# Altium footprint library resistor.PCBLIB: 427 footprints (part 8 of 27)
Each footprint in its own frame and in the unit in brackets; x right, y up, seen from the top. Pads: shape width x height; smd on the part's side, far side on the other; paste and mask are expansions set on the pad; w line width, h text height; cw(c..) or ccw(c..) is an arc to the next point about the centre after c.
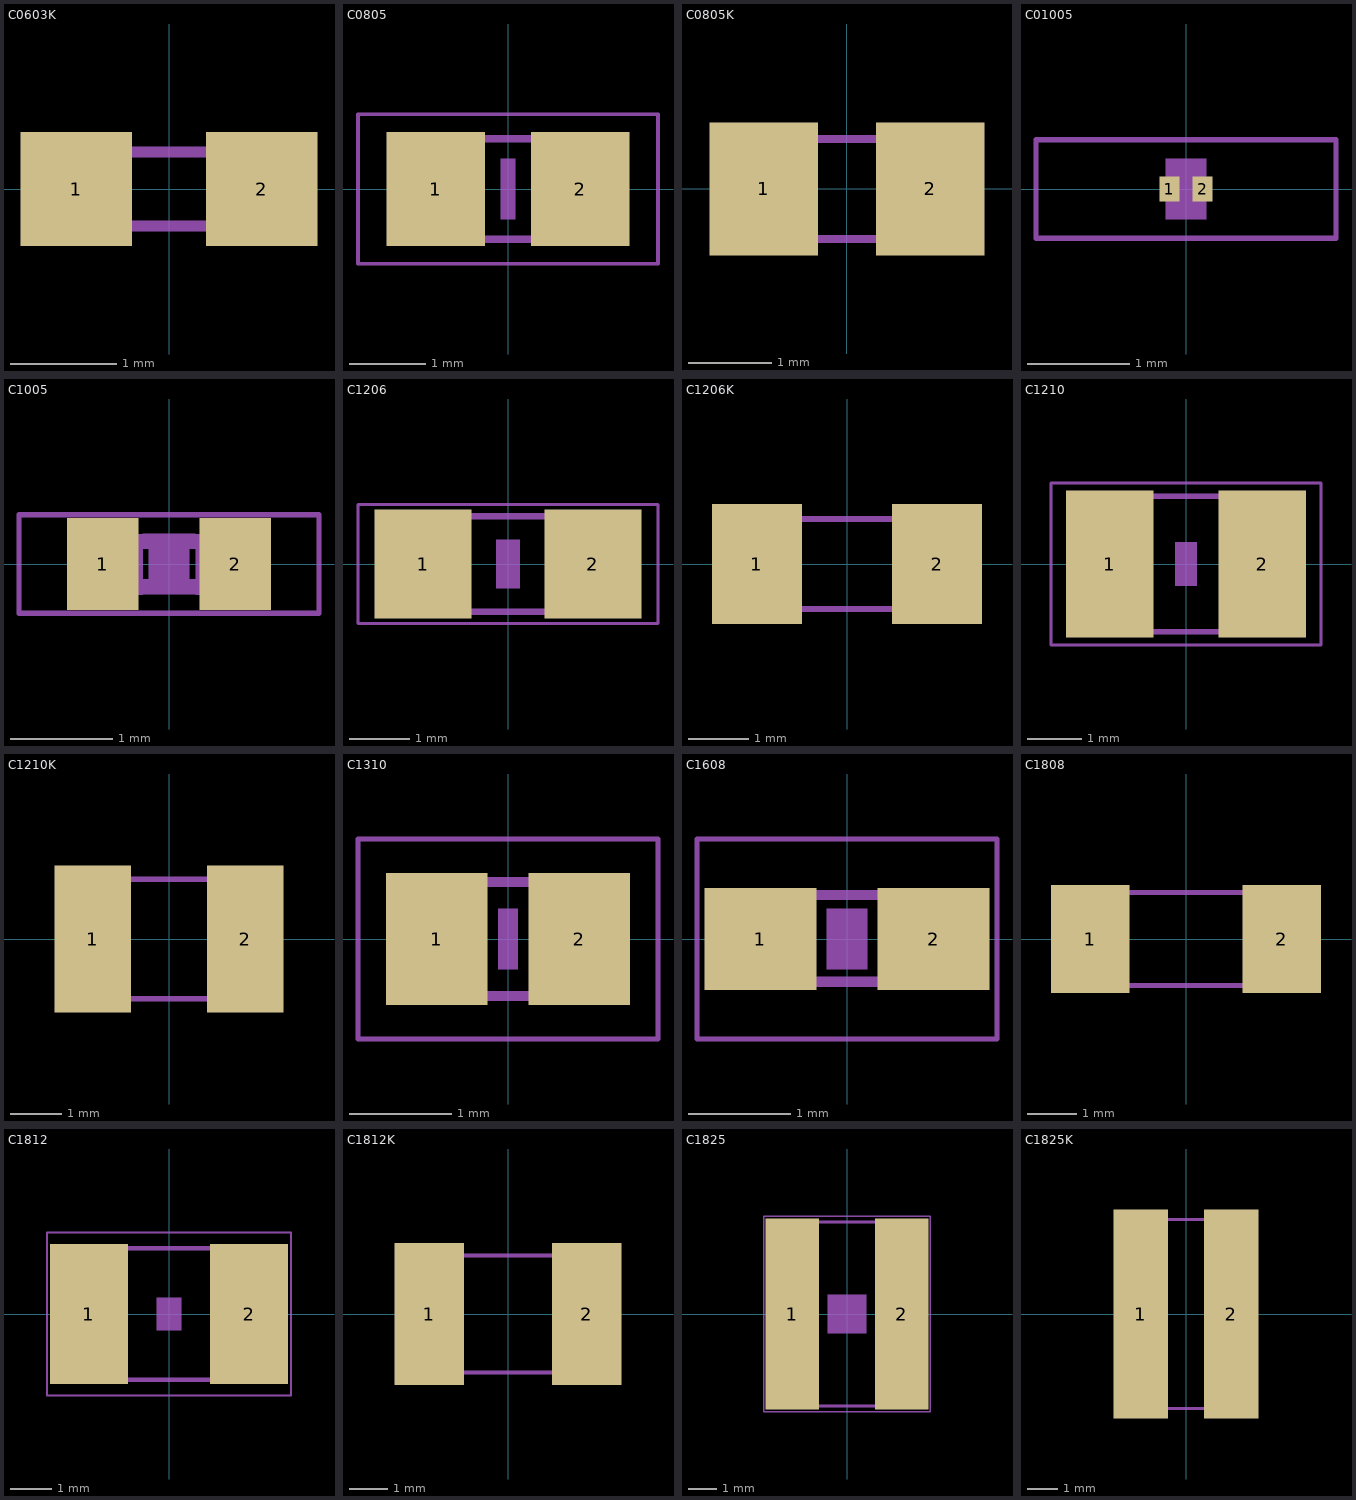
[diagram p7: the footprints below, top view; thin cyan lines are the x and y axes]

## C0603K [mm]
pads (2):
  rect 1.05x1.08 smd: 1(-0.875,0) 2(0.875,0)
Mechanical 16:
  rectangle: -0.8,-0.4 -0.45,0.4
  rectangle: 0.45,-0.4 0.8,0.4
  lines w0.102: -0.725,-0.35 0.725,-0.35 ; -0.725,0.35 0.725,0.35

## C0805 [mil]
pads (2):
  rect 51.18x59.06 smd: 1(-37.4,0) 2(37.4,0)
Mechanical 6:
  rectangle: -3.94,-15.75 3.94,15.75
Mechanical 16:
  rectangle: -43,-28.5 -13.47,28.59
  rectangle: 14,-28.5 43.53,28.59
  lines w4: -15,25.98 15,25.98 ; -14.02,-25.98 15,-25.98
Mechanical 27:
  lines w2: -77.68,-38.7 77.68,-38.7 77.68,38.7 -77.68,38.7 -77.68,-38.7

## C0805K [mm]
pads (2):
  rect 1.3x1.6 smd: 1(-1,0) 2(1,0)
Mechanical 16:
  rectangle: -1,-0.65 -0.5,0.65
  rectangle: 0.5,-0.65 1,0.65
  lines w0.102: -0.925,-0.6 0.925,-0.6 ; -0.925,0.6 0.925,0.6

## C01005 [mil]
pads (2):
  rect 7.87x9.84 smd: 1(-6.4,0) 2(6.4,0)
Mechanical 6:
  rectangle: -7.87,-11.81 7.87,11.81
Mechanical 16:
  rectangle: -7.87,-3.94 -2.95,3.94
  rectangle: 2.95,-3.94 7.87,3.94
  rectangle: -5.91,1.97 5.91,3.94
  rectangle: -5.91,-3.94 5.91,-1.97
Mechanical 27:
  lines w2: -57.99,-19.02 57.99,-19.02 57.99,19.02 -57.99,19.02 -57.99,-19.02

## C1005 [mm]
pads (2):
  rect 0.7x0.9 smd: 1(-0.65,0) 2(0.65,0)
Mechanical 6:
  rectangle: -0.2,-0.3 0.2,0.3
Mechanical 16:
  rectangle: -0.554,-0.305 -0.254,0.295
  rectangle: 0.259,-0.305 0.559,0.295
  lines w0.152: -0.245,-0.224 0.245,-0.224 ; -0.245,0.224 0.245,0.224
Mechanical 27:
  lines w0.051: -1.473,-0.483 1.473,-0.483 1.473,0.483 -1.473,0.483 -1.473,-0.483

## C1206 [mil]
pads (2):
  rect 62.99x70.87 smd: 1(-55.12,0) 2(55.12,0)
Mechanical 6:
  rectangle: -7.87,-15.75 7.87,15.75
Mechanical 16:
  rectangle: -67,-33.5 -37.47,33.43
  rectangle: 37.47,-33.43 67,33.5
  lines w4: -37.99,-30.98 37.99,-30.98 ; -37.99,30.98 37.99,30.98
Mechanical 27:
  lines w2: -97.36,-38.7 97.36,-38.7 97.36,38.7 -97.36,38.7 -97.36,-38.7

## C1206K [mm]
pads (2):
  rect 1.5x2 smd: 1(-1.5,0) 2(1.5,0)
Mechanical 16:
  rectangle: -1.6,-0.8 -1.1,0.8
  rectangle: 1.1,-0.8 1.6,0.8
  lines w0.102: -1.525,-0.75 1.525,-0.75 ; -1.525,0.75 1.525,0.75

## C1210 [mil]
pads (2):
  rect 62.99x106.3 smd: 1(-55.12,0) 2(55.12,0)
Mechanical 6:
  rectangle: -7.87,-15.75 7.87,15.75
Mechanical 16:
  rectangle: -67,-51 -37.47,51.36
  rectangle: 37.47,-51.36 67,51
  lines w4: -38,-49 38,-49 ; -38,49 38,49
Mechanical 27:
  lines w2: -97.36,-58.39 97.36,-58.39 97.36,58.39 -97.36,58.39 -97.36,-58.39

## C1210K [mil]
pads (2):
  rect 59.06x114.17 smd: 1(-59.06,0) 2(59.06,0)
Mechanical 16:
  rectangle: -62.99,-49.21 -43.31,49.21
  rectangle: 43.31,-49.21 62.99,49.21
  lines w4: -60.04,-46.26 60.04,-46.26 ; -60.04,46.26 60.04,46.26

## C1310 [mm]
pads (2):
  rect 1x1.3 smd: 1(-0.7,0) 2(0.7,0)
Mechanical 6:
  rectangle: -0.1,-0.3 0.1,0.3
Mechanical 16:
  rectangle: -0.66,-0.622 -0.28,0.628
  rectangle: 0.279,-0.622 0.659,0.628
  lines w0.102: -0.294,-0.559 0.294,-0.559 ; -0.294,0.559 0.294,0.559
Mechanical 27:
  lines w0.051: -1.473,-0.983 1.473,-0.983 1.473,0.983 -1.473,0.983 -1.473,-0.983

## C1608 [mm]
pads (2):
  rect 1.1x1 smd: 1(-0.85,0) 2(0.85,0)
Mechanical 6:
  rectangle: -0.2,-0.3 0.2,0.3
Mechanical 16:
  rectangle: -0.838,-0.47 -0.338,0.48
  rectangle: 0.33,-0.47 0.83,0.48
  lines w0.102: -0.356,-0.419 0.356,-0.419 ; -0.356,0.432 0.356,0.432
Mechanical 27:
  lines w0.051: -1.473,-0.983 1.473,-0.983 1.473,0.983 -1.473,0.983 -1.473,-0.983

## C1808 [mil]
pads (2):
  rect 62.99x86.61 smd: 1(-76.77,0) 2(76.77,0)
Mechanical 16:
  rectangle: -89.57,-39.96 -48.23,39.96
  rectangle: 48.23,-39.96 89.57,39.96
  lines w4: -58,37.41 58,37.41 ; -57,-37.41 58,-37.41

## C1812 [mil]
pads (2):
  rect 74.8x133.86 smd: 1(-76.77,0) 2(76.77,0)
Mechanical 6:
  rectangle: -11.81,-15.75 11.81,15.75
Mechanical 16:
  rectangle: -94,-65 -56.6,64.92
  rectangle: 57,-65 94.4,64.92
  lines w4: -58,63 58,63 ; -57,-63 58,-63
Mechanical 27:
  lines w2: -117.05,-78.07 117.05,-78.07 117.05,78.07 -117.05,78.07 -117.05,-78.07

## C1812K [mm]
pads (2):
  rect 1.8x3.7 smd: 1(-2.05,0) 2(2.05,0)
Mechanical 16:
  rectangle: -2.25,-1.6 -1.65,1.6
  rectangle: 1.65,-1.6 2.25,1.6
  lines w0.102: -2.175,-1.525 2.175,-1.525 ; -2.175,1.525 2.175,1.525

## C1825 [mil]
pads (2):
  rect 74.8x267.72 smd: 1(-76.77,0) 2(76.77,0)
Mechanical 6:
  rectangle: -27.56,-27.56 27.56,27.56
Mechanical 16:
  rectangle: -95,-132 -57.6,131.78
  rectangle: 57,-132 94.4,131.78
  lines w4: -59,129 58,129 ; -58,-129 59,-129
Mechanical 27:
  lines w2: -117.05,-137.13 117.05,-137.13 117.05,137.13 -117.05,137.13 -117.05,-137.13

## C1825K [mil]
pads (2):
  rect 70.87x271.65 smd: 1(-59.06,0) 2(59.06,0)
Mechanical 16:
  rectangle: -62.99,-125.98 -43.31,125.98
  rectangle: 43.31,-125.98 62.99,125.98
  lines w4: -60.04,-123.03 60.04,-123.03 ; -60.04,123.03 60.04,123.03